# Altium footprint library Train2.PCBLIB: 223 footprints (part 7 of 14)
Each footprint in its own frame and in the unit in brackets; x right, y up, seen from the top. Pads: shape width x height; smd on the part's side, far side on the other; paste and mask are expansions set on the pad; w line width, h text height; cw(c..) or ccw(c..) is an arc to the next point about the centre after c.
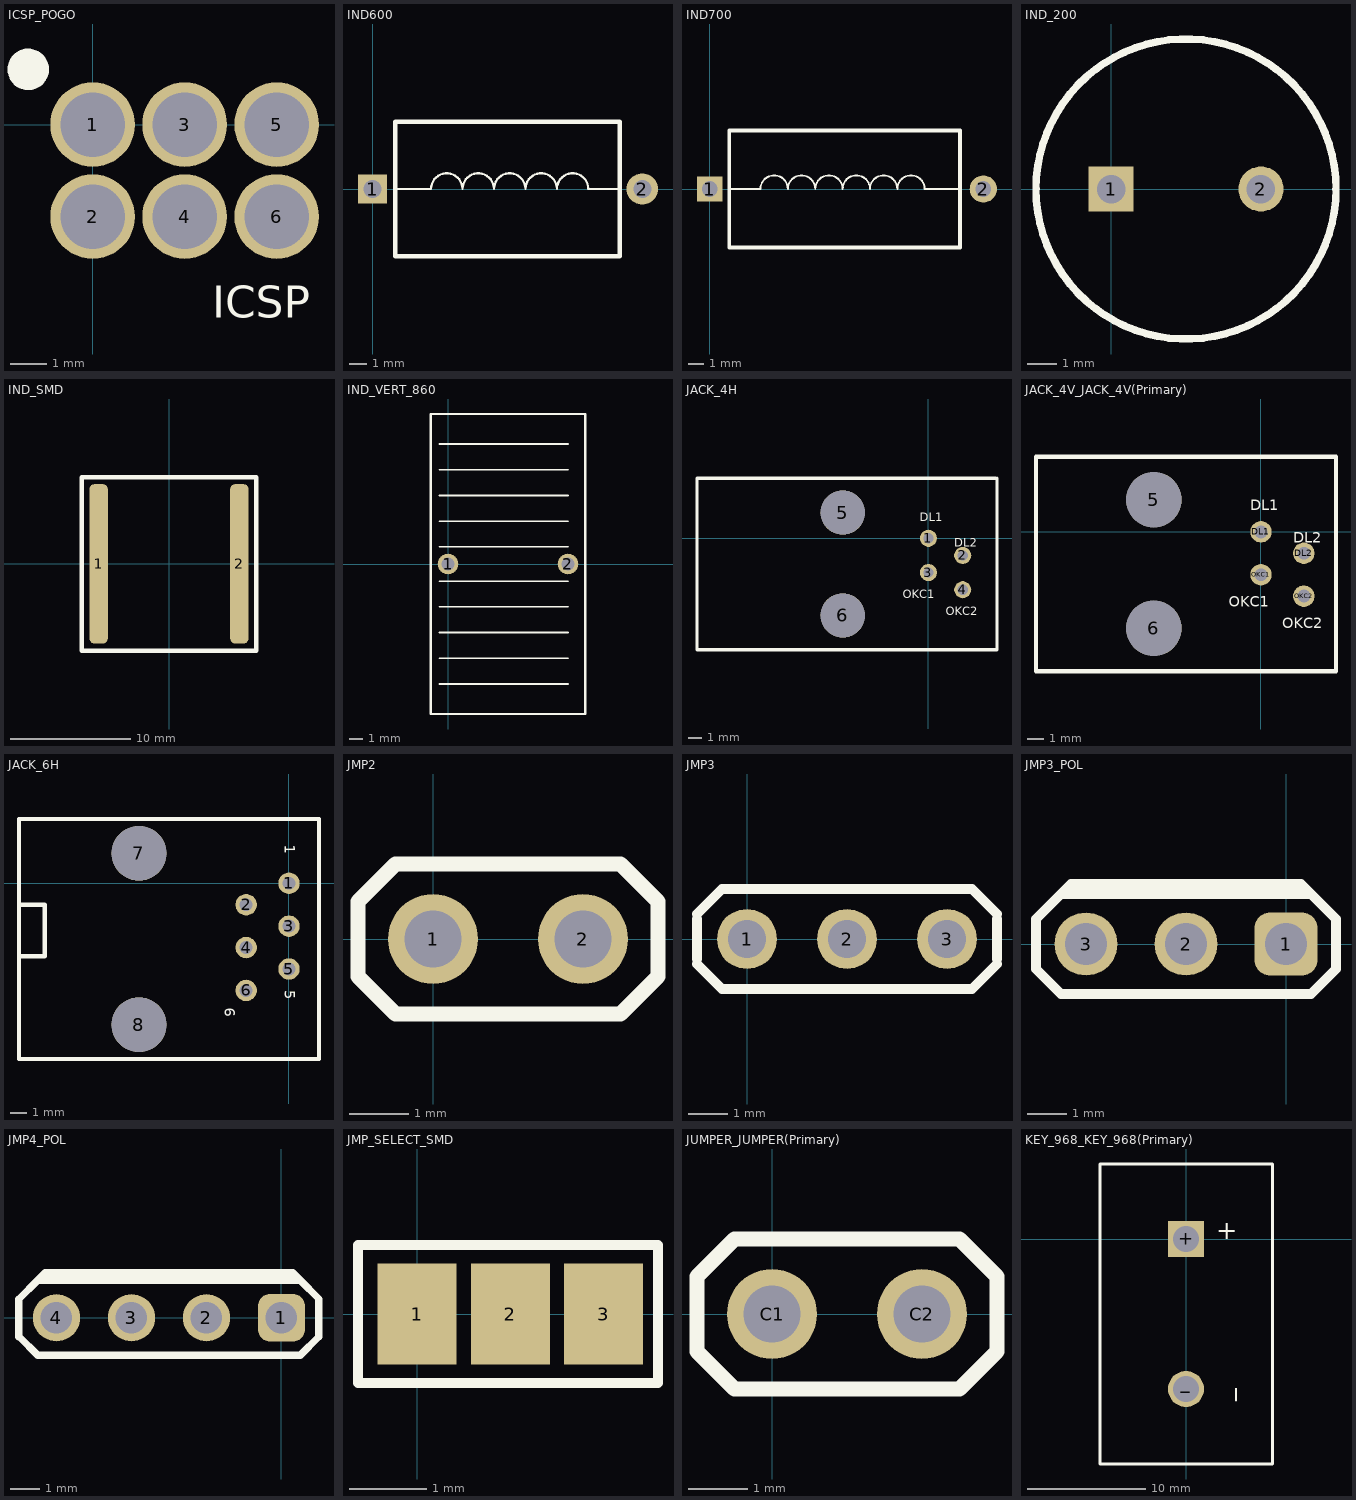
[diagram p6: the footprints below, top view; thin cyan lines are the x and y axes]

## ICSP_POGO [mil]
pads (6):
  round 92 hole 70: 1(0,0) 2(0,-100) 3(100,0) 4(100,-100) 5(200,0) 6(200,-100)
Top Overlay:
  circle w25: c-70,60 r10
  text "ICSP" at 130,-210 h35

## IND600 [mil]
pads (2):
  rect 65x65 hole 40: 1(0,0)
  round 70 hole 40: 2(600,0)
Top Overlay:
  lines w5: 50,0 130,0 cw(c165,0) 200,0 cw(c235,0) 270,0 cw(c305,0) 340,0 cw(c375,0) 410,0 cw(c445,0) 480,0 550,0
  lines w10: 50,-150 550,-150 550,150 50,150 50,-150

## IND700 [mil]
pads (2):
  rect 65x65 hole 40: 1(0,0)
  round 70 hole 40: 2(700,0)
Top Overlay:
  lines w5: 50,0 130,0 cw(c165,0) 200,0 cw(c235,0) 270,0 cw(c305,0) 340,0 cw(c375,0) 410,0 cw(c445,0) 480,0 cw(c515,0) 550,0 640,0
  lines w10: 50,-150 640,-150 640,150 50,150 50,-150

## IND_200 [mil]
pads (2):
  rect 60x60 hole 38: 1(0,0)
  round 60 hole 38: 2(200,0)
Top Overlay:
  circle w10: c100,0 r200

## IND_SMD [mm] "PULSE LCI SERIES"
height 9.14
pads (2):
  rrect50% 1.52x13.21 smd: 1(-5.84,0) 2(5.84,0)
Top Overlay:
  lines w0.381: -7.24,-7.2 7.24,-7.2 7.24,7.175 -7.24,7.175 -7.24,-7.2

## IND_VERT_860 [mil]
pads (2):
  round 60 hole 38: 1(0,0) 2(350,0)
Top Overlay:
  lines w5: -25,-350 350,-350 ; -25,-275 350,-275 ; -25,-200 350,-200 ; -25,-125 350,-125 ; -25,-50 0,-50 350,-50 ; -25,50 350,50 ; -25,125 350,125 ; -25,200 350,200 ; -25,275 350,275 ; -25,350 350,350
  lines w7: -50,-437.5 -50,437.5 400,437.5 400,-437.5 -50,-437.5

## JACK_4H [mil]
pads (6):
  round 50 hole 30: 1(0,0) 2(100,-50) 3(0,-100) 4(100,-150)
  round 129 hole 129 unplated: 5(-250,75) 6(-250,-225)
Top Overlay:
  lines w10: 195,175 -675,175 -675,-325 200,-325 200,175
  text "DL2" at 75,-25 h25
  text "OKC2" at 50,-225 h25
  text "DL1" at -25,50 h25
  text "OKC1" at -75,-175 h25

## JACK_4V_JACK_4V(Primary) [mil]
pads (6):
  round 129 hole 129 unplated: 5(-250,75) 6(-250,-225)
  round 50 hole 30: DL1(0,0) DL2(100,-50) OKC1(0,-100) OKC2(100,-150)
Top Overlay:
  lines w10: -525,-325 -525,175 175,175 175,-325 -525,-325
  text "OKC1" at -75,-175 h25
  text "DL1" at -25,50 h25
  text "OKC2" at 50,-225 h25
  text "DL2" at 75,-25 h25

## JACK_6H [mil]
pads (8):
  round 50 hole 30: 1(0,0) 2(-100,-50) 3(0,-100) 4(-100,-150) 5(0,-200) 6(-100,-250)
  round 128 hole 128 unplated: 7(-350,70) 8(-350,-330)
Top Overlay:
  lines w10: -630,-170 -570,-170 -570,-50 -630,-50 ; -630,-410 -630,150 70,150 70,-410 -630,-410
  text "6" at -150,-290 h25
  text "5" at -10,-250 h25
  text "1" at -10,90 h25

## JMP2 [mil]
pads (2):
  round 60 hole 38: 1(0,0) 2(100,0)
Top Overlay:
  lines w10: -50,-25 -50,25 -25,50 125,50 150,25 150,-25 125,-50 -25,-50 -50,-25

## JMP3 [mil]
pads (3):
  round 60 hole 38: 1(0,0) 2(100,0) 3(200,0)
Top Overlay:
  lines w10: -50,-25 -25,-50 225,-50 250,-25 ; -50,-20 -50,20 ; -50,25 -25,50 225,50 250,25 ; 250,-20 250,20

## JMP3_POL [mil]
pads (3):
  rrect50% 63x63 hole 42: 1(0,0)
  round 63 hole 42: 2(-100,0) 3(-200,0)
Top Overlay:
  lines w10: -225,50 -250,25 -250,-25 -225,-50 25,-50 50,-25 50,20 50,25 25,50 ; -225,50 25,50 ; -225,50 -215,60 15,60 25,50
3D body "molex3pin.STEP": height 119.1, standoff -440.74, extent -248,-124 52,126

## JMP4_POL [mil]
pads (4):
  rrect50% 63x63 hole 42: 1(0,0)
  round 63 hole 42: 2(-100,0) 3(-200,0) 4(-300,0)
Top Overlay:
  lines w10: -325,50 25,50 ; -325,50 -315,60 15,60 25,50 ; -325,50 -350,25 -350,-25 -325,-50 25,-50 50,-25 50,20 50,25 25,50
3D body "User Library-A-6373-04A102.STEP": height 419.49, standoff -140.35, extent -351,-124 49,126

## JMP_SELECT_SMD [mil]
pads (3):
  rect 40x51 smd paste+0 mask+2.95: 1(0,0)
  rect 40x51 smd mask+2.95: 2(47.24,0) 3(94.49,0)
Top Overlay:
  lines w5: -30,-35 122.05,-35 122.05,35 -30,35 -30,-35

## JUMPER_JUMPER(Primary) [mil]
pads (2):
  round 60 hole 38: C1(0,0) C2(100,0)
Top Overlay:
  lines w10: -50,-25 -25,-50 125,-50 150,-25 150,25 125,50 -25,50 -50,25 -50,-25

## KEY_968_KEY_968(Primary) [mil]
pads (2):
  rect 120x120 hole 86: +(0,0)
  round 120 hole 86: _(0,-500)
Top Overlay:
  lines w10: -287.5,-750 287.5,-750 287.5,250 -287.5,250 -287.5,-750
  text "+" at 100,0 h62.5
  text "_" at 150,-540 h62.5